# EAGLE library part SIM900D (library SIM900D)
Footprint for SIM900D, SIMCOM GPRS/GSM module. This is a complete Quad-band GSM/GPRS module in a SMT type and designed with a very powerful single-chip processor integrating AMR926EJ-S core, allowing you to benefit from small dimensions and cost-effective solutions. Furthermore, SIM900D can be compatible with SIM340DZ.
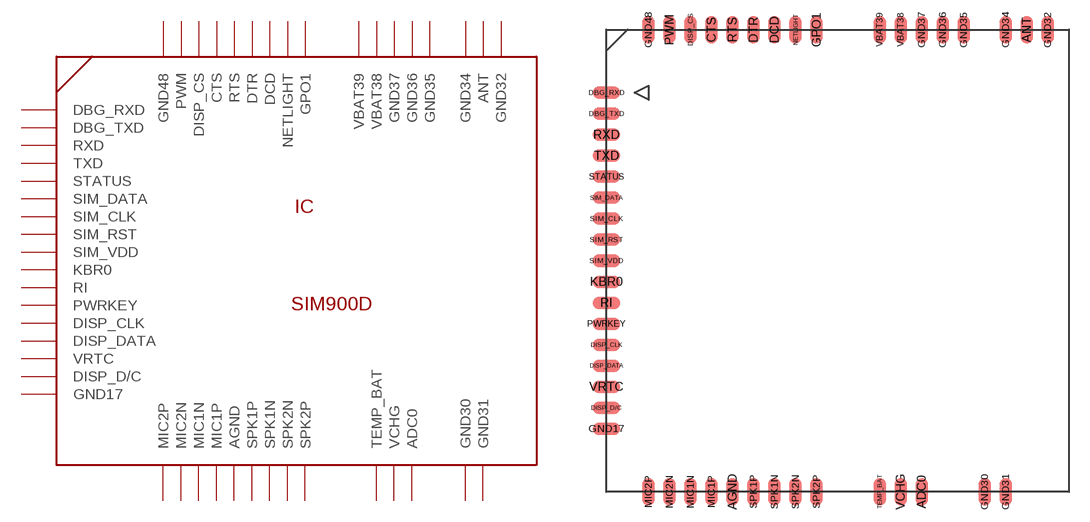
[diagram p0: symbol with the pads of SIM900D; footprint SIM900D]

Designator prefix IC

## SIM900D  [SIM900D]
ADC0  ADC0  in
AGND  AGND  pwr
ANT  ANT
CTS  CTS  out
DBG_RXD  DBG_RXD  in
DBG_TXD  DBG_TXD  out
DCD  DCD  out
DISP_CLK  DISP_CLK  out
DISP_CS  DISP_CS  out
DISP_D/C  DISP_D/C  out
DISP_DATA  DISP_DATA
DTR  DTR  in
GND17  GND17  pwr
GND30  GND30  pwr
GND31  GND31  pwr
GND32  GND32  pwr
GND34  GND34  pwr
GND35  GND35  pwr
GND36  GND36  pwr
GND37  GND37  pwr
GND48  GND48  pwr
GPO1  GPO1  out
KBR0  KBR0
MIC1N  MIC1N  in
MIC1P  MIC1P  in
MIC2N  MIC2N  in
MIC2P  MIC2P  in
NETLIGHT  NETLIGHT  out
PWM  PWM  out
PWRKEY  PWRKEY  in
RI  RI  out
RTS  RTS  in
RXD  RXD  in
SIM_CLK  SIM_CLK  out
SIM_DATA  SIM_DATA
SIM_RST  SIM_RST  out
SIM_VDD  SIM_VDD  out
SPK1N  SPK1N  out
SPK1P  SPK1P  out
SPK2N  SPK2N  out
SPK2P  SPK2P  out
STATUS  STATUS  out
TEMP_BAT  TEMP_BAT  in
TXD  TXD  out
VBAT38  VBAT38  pwr
VBAT39  VBAT39  pwr
VCHG  VCHG  in
VRTC  VRTC

## Footprint SIM900D (pad centres in mm)
smd 0.9 x 2: ADC0 6,-16.5; AGND -7.5,-16.5; ANT 13.5,16.5; CTS -9,16.5; DCD -4.5,16.5; DISP_CS -10.5,16.5; DTR -6,16.5; GND30 10.5,-16.5; GND31 12,-16.5; GND32 15,16.5; GND34 12,16.5; GND35 9,16.5; GND36 7.5,16.5; GND37 6,16.5; GND48 -13.5,16.5; GPO1 -1.5,16.5; MIC1N -10.5,-16.5; MIC1P -9,-16.5; MIC2N -12,-16.5; MIC2P -13.5,-16.5; NETLIGHT -3,16.5; PWM -12,16.5; RTS -7.5,16.5; SPK1N -4.5,-16.5; SPK1P -6,-16.5; SPK2N -3,-16.5; SPK2P -1.5,-16.5; TEMP_BAT 3,-16.5; VBAT38 4.5,16.5; VBAT39 3,16.5; VCHG 4.5,-16.5
smd 2 x 0.9: DBG_RXD -16.5,12; DBG_TXD -16.5,10.5; DISP_CLK -16.5,-6; DISP_D/C -16.5,-10.5; DISP_DATA -16.5,-7.5; GND17 -16.5,-12; KBR0 -16.5,-1.5; PWRKEY -16.5,-4.5; RI -16.5,-3; RXD -16.5,9; SIM_CLK -16.5,3; SIM_DATA -16.5,4.5; SIM_RST -16.5,1.5; SIM_VDD -16.5,0; STATUS -16.5,6; TXD -16.5,7.5; VRTC -16.5,-9